# EAGLE library part 93LC56BT (library MainBoard)
93LC56BT Microchip 2K Microwire Compatible Serial EEPROM Source: http://ww1.microchip.com/downloads/en/DeviceDoc/21794F.pdf
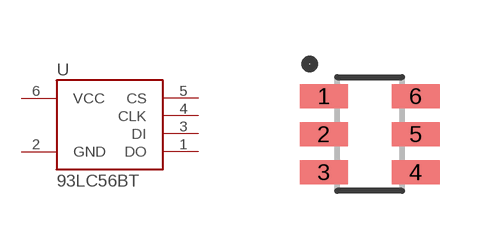
[diagram p14: symbol with the pads of SOT23-6L; footprint SOT23-6L]

Designator prefix U

## 93LC56BT-OT (DIGI-KEY#: 93LC56BT-I/OTCT-ND; MF: Microchip Technology; MPN: 93LC56BT-I/OT)  [SOT23-6L]
1  DO  out
2  GND  pwr
3  DI  in
4  CLK  in
5  CS  in
6  VCC  pwr

## Footprint SOT23-6L (pad centres in mm)
SOT23-6L Source: http://www.st.com/internet/com/TECHNICAL_RESOURCES/TECHNICAL_LITERATURE/DATASHEET/CD00050750.pdf
smd 1.2 x 0.6: 1 -1.15,0.95; 2 -1.15,0; 3 -1.15,-0.95; 4 1.15,-0.95; 5 1.15,0; 6 1.15,0.95